# Altium schematic symbol library Schlib1.SchLib: 4 symbols
Pins are listed as number, name and electrical type; pins without a type are passive.

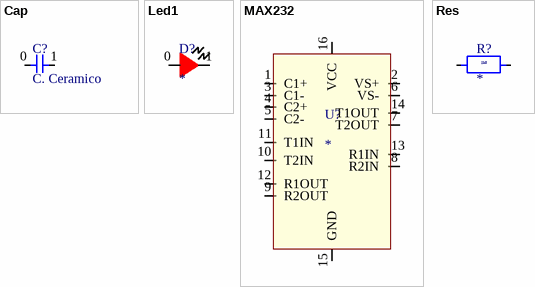
[diagram p0: symbols Cap to Res]

## Cap
designator C?, comment C. Ceramico
pins: 0 f, 1

## Led1
designator D?
pins: 0 A, 1 K

## MAX232
designator U?
pins: 1 C1+, 2 VS+, 3 C1-, 4 C2+, 5 C2-, 6 VS-, 7 T2OUT, 8 R2IN, 9 R2OUT, 10 T2IN, 11 T1IN, 12 R1OUT, 13 R1IN, 14 T1OUT, 15 GND (power), 16 VCC (power)

## Res
designator R?
footprint res
pins: 0 p, 1 p
text: 1k0